# Altium footprint library Double_AD9653.PcbLib: 56 footprints (part 3 of 4)
Each footprint in its own frame and in the unit in brackets; x right, y up, seen from the top. Pads: shape width x height; smd on the part's side, far side on the other; paste and mask are expansions set on the pad; w line width, h text height; cw(c..) or ccw(c..) is an arc to the next point about the centre after c.
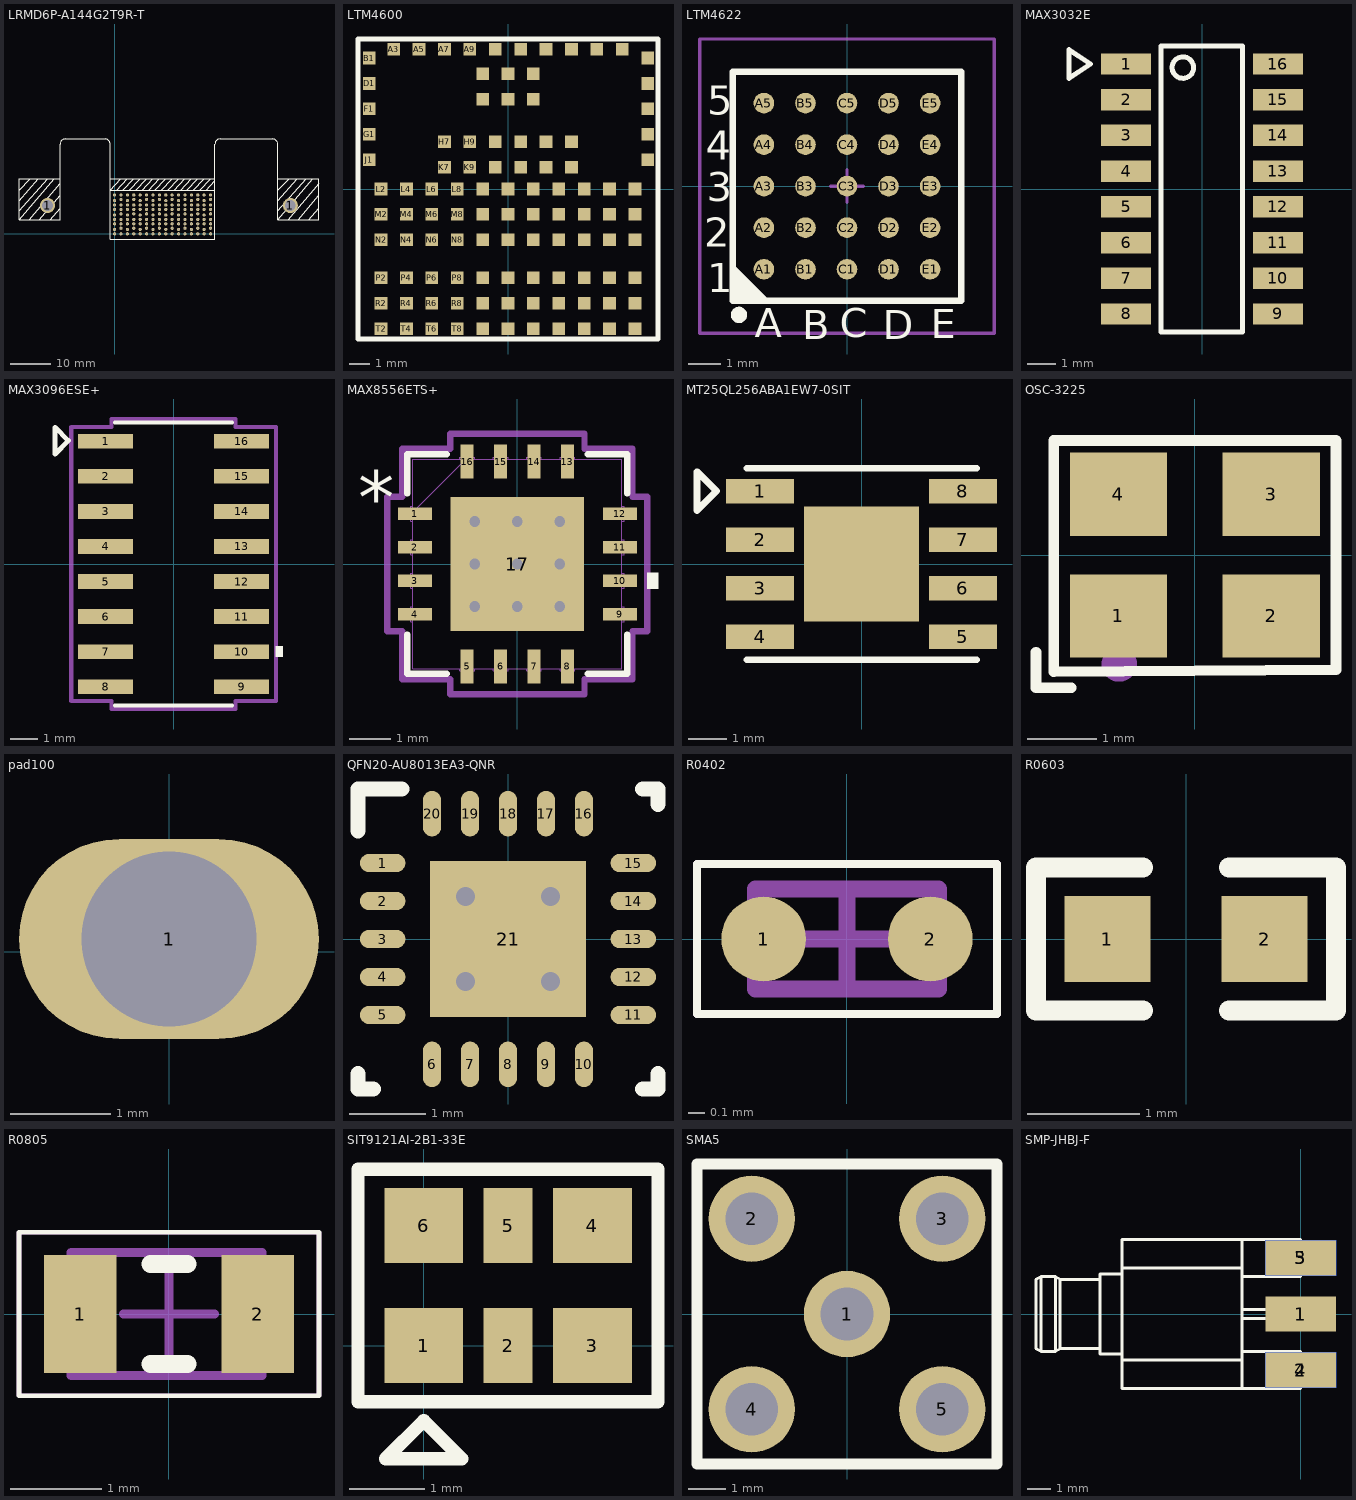
[diagram p2: the footprints below, top view; thin cyan lines are the x and y axes]

## LRMD6P-A144G2T9R-T [mm]
pads (146):
  round 3.8 hole 2.7: 1(-16.75,7.08) 1(43.95,7.08)
  round 0.8 hole 0.36: A8(0,0) A9(1.6,0) A10(3.2,0) A11(4.8,0) A12(6.4,0) A13(8,0) A14(9.6,0) A15(11.2,0) A16(12.8,0) A17(14.4,0) A18(16,0) A19(17.6,0) A20(19.2,0) A21(20.8,0) A22(22.4,0) A23(24,0) B8(0,1.1) B9(1.6,1.4) B10(3.2,1.1) B11(4.8,1.4) B12(6.4,1.1) B13(8,1.4) B14(9.6,1.1) B15(11.2,1.4) B16(12.8,1.1) B17(14.4,1.4) B18(16,1.1) B19(17.6,1.4) B20(19.2,1.1) B21(20.8,1.4) B22(22.4,1.1) B23(24,1.4) C8(0,2.5) C9(1.6,2.5) C10(3.2,2.5) C11(4.8,2.5) C12(6.4,2.5) C13(8,2.5) C14(9.6,2.5) C15(11.2,2.5) C16(12.8,2.5) C17(14.4,2.5) C18(16,2.5) C19(17.6,2.5) C20(19.2,2.5) C21(20.8,2.5) C22(22.4,2.5) C23(24,2.5) D8(0,3.6) D9(1.6,3.6) D10(3.2,3.6) D11(4.8,3.6) D12(6.4,3.6) D13(8,3.6) D14(9.6,3.6) D15(11.2,3.6) D16(12.8,3.6) D17(14.4,3.6) D18(16,3.6) D19(17.6,3.6) D20(19.2,3.6) D21(20.8,3.6) D22(22.4,3.6) D23(24,3.6) E8(0,4.7) E9(1.6,5) E10(3.2,4.7) E11(4.8,5) E12(6.4,4.7) E13(8,5) E14(9.6,4.7) E15(11.2,5) E16(12.8,4.7) E17(14.4,5) E18(16,4.7) E19(17.6,5) E20(19.2,4.7) E21(20.8,5) E22(22.4,4.7) E23(24,5) F8(0,6.1) F9(1.6,6.1) F10(3.2,6.1) F11(4.8,6.1) F12(6.4,6.1) F13(8,6.1) F14(9.6,6.1) F15(11.2,6.1) F16(12.8,6.1) F17(14.4,6.1) F18(16,6.1) F19(17.6,6.1) F20(19.2,6.1) F21(20.8,6.1) F22(22.4,6.1) F23(24,6.1) G8(0,7.2) G9(1.6,7.2) G10(3.2,7.2) G11(4.8,7.2) G12(6.4,7.2) G13(8,7.2) G14(9.6,7.2) G15(11.2,7.2) G16(12.8,7.2) G17(14.4,7.2) G18(16,7.2) G19(17.6,7.2) G20(19.2,7.2) G21(20.8,7.2) G22(22.4,7.2) G23(24,7.2) H8(0,8.3) H9(1.6,8.6) H10(3.2,8.3) H11(4.8,8.6) H12(6.4,8.3) H13(8,8.6) H14(9.6,8.3) H15(11.2,8.6) H16(12.8,8.3) H17(14.4,8.6) H18(16,8.3) H19(17.6,8.6) H20(19.2,8.3) H21(20.8,8.6) H22(22.4,8.3) H23(24,8.6) I8(0,9.7) I9(1.6,9.7) I10(3.2,9.7) I11(4.8,9.7) I12(6.4,9.7) I13(8,9.7) I14(9.6,9.7) I15(11.2,9.7) I16(12.8,9.7) I17(14.4,9.7) I18(16,9.7) I19(17.6,9.7) I20(19.2,9.7) I21(20.8,9.7) I22(22.4,9.7) I23(24,9.7)
Top Overlay:
  lines w0.254: -23.9,5.81 -16.75,13.8 ; -23.9,8.3 -19.042,13.811 ; -23.9,10.89 -21.074,13.8 ; -21.328,3.58 -13.581,12.668 ; -18.788,3.58 -13.6,9.7 ; -16.121,3.58 -13.6,6.445 ; -15.105,13.8 -23.9,3.58 ; -13.6,13.8 -23.9,13.8 -23.9,7.08 -23.9,3.58 ; -1.1,13.8 25.1,13.8 ; 0.5,10.89 3.2,13.8 ; 1.6,13.8 -1.1,10.89 25.1,10.89 ; 2.1,10.89 4.8,13.8 ; 3.7,10.89 6.4,13.8 ; 5.3,10.89 8,13.8 ; 6.9,10.89 9.6,13.8 ; 8.5,10.89 11.2,13.8 ; 10.1,10.89 12.8,13.8 ; 11.7,10.89 14.4,13.8 ; 13.3,10.89 16,13.8 ; 14.9,10.89 17.6,13.8 ; 16.5,10.89 19.2,13.8 ; 18.1,10.89 20.8,13.8 ; 19.7,10.89 22.4,13.8 ; 21.3,10.89 24,13.8 ; 22.9,10.89 25.058,13.215 ; 40.8,5.81 47.95,13.8 ; 40.8,8.3 45.658,13.811 ; 40.8,10.89 43.626,13.8 ; 40.8,13.8 51.1,13.8 51.1,7.08 51.1,3.58 43.95,3.58 40.8,3.58 ; 43.372,3.58 51.119,12.668 ; 45.912,3.58 51.1,9.7 ; 48.579,3.58 51.1,6.445 ; 49.595,13.8 40.8,3.58 ; -23.9,3.58 -16.75,3.58 -13.6,3.58 -13.6,7.08 -13.6,21.558 -13.6,22.447 cw(c-12.33,22.447) -12.33,23.717 -2.37,23.717 cw(c-2.37,22.447) -1.1,22.447 -1.1,0 -1.1,-1.3 25.1,-1.3 25.1,0 25.1,21.558 25.1,22.449 cw(c26.37,22.449) 26.37,23.719 39.53,23.719 cw(c39.53,22.449) 40.8,22.449 40.8,21.558 40.8,7.08 40.8,3.58
Drill Guide:
  lines w0.254: -16.75,13.8 -16.75,7.08 ; -13.6,7.08 -16.75,7.08 ; -1.1,0 0,0 0,-1.3 ; 24,-1.3 24,0 25.1,0 ; 40.8,7.08 43.95,7.08 ; 43.95,3.58 43.95,7.08 ; 43.95,13.8 43.95,7.08 ; -23.9,7.08 -16.75,7.08 ; -23.9,7.08 -23.9,13.8 51.1,13.8 51.1,7.08 ; -23.9,7.08 -16.75,7.08 ; 43.95,7.08 51.1,7.08 ; 43.95,7.08 51.1,7.08

## LTM4600 [mm] "High Effciency DC/DC μModule"
height 3
pads (104):
  rect 0.635x0.635 smd: A3(-5.716,6.989) A5(-4.446,6.989) A7(-3.176,6.989) A9(-1.906,6.989) A11(-0.636,6.989) A13(0.634,6.989) A15(1.904,6.989) A17(3.174,6.989) A19(4.444,6.989) A21(5.715,6.989) B23(6.987,6.548) C10(-1.27,5.765) C12(0,5.765) C14(1.27,5.765) D1(-6.942,5.278) D23(6.987,5.278) E10(-1.27,4.495) E12(0,4.495) E14(1.27,4.495) F1(-6.942,4.008) F23(6.987,4.008) G1(-6.942,2.738) G23(6.987,2.738) H7(-3.176,2.36) H9(-1.906,2.36) H11(-0.636,2.36) H13(0.634,2.36) H15(1.904,2.36) H17(3.174,2.36) J1(-6.942,1.468) J23(6.987,1.468) K7(-3.176,1.09) K9(-1.906,1.09) K11(-0.636,1.09) K13(0.634,1.09) K15(1.904,1.09) K17(3.174,1.09) L2(-6.35,0) L4(-5.08,0) L6(-3.81,0) L8(-2.54,0) L10(-1.27,0) L12(0,0) L14(1.27,0) L16(2.54,0) L18(3.81,0) L20(5.08,0) L22(6.35,0) M2(-6.35,-1.27) M4(-5.08,-1.27) M6(-3.81,-1.27) M8(-2.54,-1.27) M10(-1.27,-1.27) M12(0,-1.27) M14(1.27,-1.27) M16(2.54,-1.27) M18(3.81,-1.27) M20(5.08,-1.27) M22(6.35,-1.27) N2(-6.35,-2.54) N4(-5.08,-2.54) N6(-3.81,-2.54) N8(-2.54,-2.54) N10(-1.27,-2.54) N12(0,-2.54) N14(1.27,-2.54) N16(2.54,-2.54) N18(3.81,-2.54) N20(5.08,-2.54) N22(6.35,-2.54) P2(-6.35,-4.445) P4(-5.08,-4.445) P6(-3.81,-4.445) P8(-2.54,-4.445) P10(-1.27,-4.445) P12(0,-4.445) P14(1.27,-4.445) P16(2.54,-4.445) P18(3.81,-4.445) P20(5.08,-4.445) P22(6.35,-4.445) R2(-6.35,-5.715) R4(-5.08,-5.715) R6(-3.81,-5.715) R8(-2.54,-5.715) R10(-1.27,-5.715) R12(0,-5.715) R14(1.27,-5.715) R16(2.54,-5.715) R18(3.81,-5.715) R20(5.08,-5.715) R22(6.35,-5.715) T2(-6.35,-6.985) T4(-5.08,-6.985) T6(-3.81,-6.985) T8(-2.54,-6.985) T10(-1.27,-6.985) T12(0,-6.985) T14(1.27,-6.985) T16(2.54,-6.985) T18(3.81,-6.985) T20(5.08,-6.985) T22(6.35,-6.985)
  rect 0.635x0.635 smd paste+0: B1(-6.942,6.548)
Top Overlay:
  lines w0.254: -7.5,-7.5 -7.5,7.5 7.5,7.5 7.5,-7.5 -7.5,-7.5
  text "." at -7.899,6.528 h1.52

## LTM4622 [mm]
pads (25):
  round 0.63 smd: A1(-2.54,-2.54) A2(-2.54,-1.27) A3(-2.54,0) A4(-2.54,1.27) A5(-2.54,2.54) B1(-1.27,-2.54) B2(-1.27,-1.27) B3(-1.27,0) B4(-1.27,1.27) B5(-1.27,2.54) C1(0,-2.54) C2(0,-1.27) C3(0,0) C4(0,1.27) C5(0,2.54) D1(1.27,-2.54) D2(1.27,-1.27) D3(1.27,0) D4(1.27,1.27) D5(1.27,2.54) E1(2.54,-2.54) E2(2.54,-1.27) E3(2.54,0) E4(2.54,1.27) E5(2.54,2.54)
Top Overlay:
  circle w0.25: c-3.302,-3.937 r0.125
  region: -3.5,-2.5 -2.5,-3.5 -3.5,-3.5
  lines w0.2: -3.5,-2.5 -2.5,-3.5 ; -3.5,-3.5 -3.5,3.5 3.5,3.5 3.5,-3.5 -3.5,-3.5
  text "A" at -2.819,-4.623 h0.89
  text "B" at -1.372,-4.674 h0.89
  text "C" at -0.229,-4.623 h0.89
  text "D" at 1.092,-4.674 h0.89
  text "E" at 2.565,-4.648 h0.89
  text "1" at -4.267,-3.251 h0.89
  text "2" at -4.369,-1.854 h0.89
  text "3" at -4.293,-0.457 h0.89
  text "4" at -4.318,0.813 h0.89
  text "5" at -4.267,2.184 h0.89
Mechanical 13:
  lines w0.1: -3.5,-3.5 -3.5,3.5 3.5,3.5 3.5,-3.5 -3.5,-3.5
Mechanical 15:
  lines w0.1: -0.5,0 0.5,0 ; 0,-0.5 0,0.5 ; -4.5,-4.5 -4.5,4.5 4.5,4.5 4.5,-4.5 -4.5,-4.5
3D body: height 1.55, standoff 0, extent -3.5,-3.5 3.5,3.5

## MAX3032E [mil]
pads (16):
  rect 70x30 smd: 1(-106.3,175) 2(-106.3,125) 3(-106.3,75) 4(-106.3,25) 5(-106.3,-25) 6(-106.3,-75) 7(-106.3,-125) 8(-106.3,-175) 9(106.3,-175) 10(106.3,-125) 11(106.3,-75) 12(106.3,-25) 13(106.3,25) 14(106.3,75) 15(106.3,125) 16(106.3,175)
Top Overlay:
  circle w7: c-26.97,170 r15
  lines w7: -186.3,155 -186.3,195 -156.3,175 -186.3,155 ; -57.3,-200 -57.3,200 56.55,200 56.55,-200 -57.3,-200

## MAX3096ESE+ [mil]
pads (16):
  rect 78x21 smd: 1(-97,175) 2(-97,125) 3(-97,75) 4(-97,25) 5(-97,-25) 6(-97,-75) 7(-97,-125) 8(-97,-175) 9(97,-175) 10(97,-125) 11(97,-75) 12(97,-25) 13(97,25) 14(97,75) 15(97,125) 16(97,175)
Top Overlay:
  region: 146,-117.5 156,-117.5 156,-132.5 146,-132.5
  lines w6: -83.5,-202 83.5,-202 ; -83.5,202 83.5,202
  lines w7: -169,157 -169,195 -150,176 -169,157
Mechanical 15:
  lines w6: -146,-195.5 -146,195.5 -88.5,195.5 -88.5,207 88.5,207 88.5,195.5 146,195.5 146,-195.5 88.5,-195.5 88.5,-207 -88.5,-207 -88.5,-195.5 -146,-195.5

## MAX8556ETS+ [mil]
pads (17):
  rect 32x12 smd paste+0 mask+0: 1(-96.5,47.24) 2(-96.5,15.75) 3(-96.5,-15.75) 4(-96.5,-47.24) 9(96.5,-47.24) 10(96.5,-15.75) 11(96.5,15.75) 12(96.5,47.24)
  rect 12x32 smd paste+0 mask+0: 5(-47.24,-96.5) 6(-15.75,-96.5) 7(15.75,-96.5) 8(47.24,-96.5) 13(47.24,96.5) 14(15.75,96.5) 15(-15.75,96.5) 16(-47.24,96.5)
  rect 126x126 smd paste-62.5 mask+0: 17(0,0)
via 40,0 diameter 18 hole 10
via 40,-40 diameter 18 hole 10
via -40,-40 diameter 18 hole 10
via -40,40 diameter 18 hole 10
via 40,40 diameter 18 hole 10
via -40,0 diameter 18 hole 10
via 0,-40 diameter 18 hole 10
via 0,40 diameter 18 hole 10
via 0,0 diameter 18 hole 10
Top Overlay:
  region: 122.5,-8.25 132.5,-8.25 132.5,-23.25 122.5,-23.25
  lines w6: -103.5,-66.34 -103.5,-103.5 -66.34,-103.5 ; -103.5,66.34 -103.5,103.5 -66.34,103.5 ; 66.34,-103.5 103.5,-103.5 103.5,-66.34 ; 66.34,103.5 103.5,103.5 103.5,66.34
  text "*" at -150,37.99 h50
Top Paste:
  region: -3.94,59.06 -59.06,59.06 -59.06,3.94 -3.94,3.94
  region: -3.94,-3.94 -59.06,-3.94 -59.06,-59.06 -3.94,-59.06
  region: 59.06,59.06 3.94,59.06 3.94,3.94 59.06,3.94
  region: 59.06,-3.94 3.94,-3.94 3.94,-59.06 59.06,-59.06
Mechanical 13:
  lines w1: -98.5,48.5 -48.5,98.5 ; -100.5,-54.24 -100.5,-40.24 -98.5,-40.24 -98.5,-54.24 -100.5,-54.24 ; -100.5,-22.75 -100.5,-8.75 -98.5,-8.75 -98.5,-22.75 -100.5,-22.75 ; -100.5,8.75 -100.5,22.75 -98.5,22.75 -98.5,8.75 -100.5,8.75 ; -100.5,40.24 -100.5,54.24 -98.5,54.24 -98.5,40.24 -100.5,40.24 ; -98.5,-98.5 98.5,-98.5 98.5,98.5 -98.5,98.5 -98.5,-98.5 ; -54.24,-100.5 -54.24,-98.5 -40.24,-98.5 -40.24,-100.5 -54.24,-100.5 ; -54.24,98.5 -40.24,98.5 -40.24,100.5 -54.24,100.5 -54.24,98.5 ; -22.75,-100.5 -22.75,-98.5 -8.75,-98.5 -8.75,-100.5 -22.75,-100.5 ; -22.75,98.5 -8.75,98.5 -8.75,100.5 -22.75,100.5 -22.75,98.5 ; 8.75,-100.5 8.75,-98.5 22.75,-98.5 22.75,-100.5 8.75,-100.5 ; 8.75,98.5 22.75,98.5 22.75,100.5 8.75,100.5 8.75,98.5 ; 40.24,-100.5 40.24,-98.5 54.24,-98.5 54.24,-100.5 40.24,-100.5 ; 40.24,98.5 54.24,98.5 54.24,100.5 40.24,100.5 40.24,98.5 ; 98.5,-54.24 98.5,-40.24 100.5,-40.24 100.5,-54.24 98.5,-54.24 ; 98.5,-22.75 98.5,-8.75 100.5,-8.75 100.5,-22.75 98.5,-22.75 ; 98.5,8.75 98.5,22.75 100.5,22.75 100.5,8.75 98.5,8.75 ; 98.5,40.24 98.5,54.24 100.5,54.24 100.5,40.24 98.5,40.24
  text "*" at -93,37.99 h50
Mechanical 15:
  lines w6: -122.5,-63.24 -108.5,-63.24 -108.5,-108.5 -63.24,-108.5 -63.24,-122.5 63.24,-122.5 63.24,-108.5 108.5,-108.5 108.5,-63.24 122.5,-63.24 122.5,63.24 108.5,63.24 108.5,108.5 63.24,108.5 63.24,122.5 -63.24,122.5 -63.24,108.5 -108.5,108.5 -108.5,63.24 -122.5,63.24 -122.5,-63.24
3D body "21-0140_T1655+3_MXM.step": height 32.09, standoff 0, extent -100.51,-100.51 100.51,100.51

## MT25QL256ABA1EW7-0SIT [mm]
pads (9):
  rect 1.778x0.635 smd: 1(-2.65,1.905) 2(-2.65,0.635) 3(-2.65,-0.635) 4(-2.65,-1.905) 5(2.65,-1.905) 6(2.65,-0.635) 7(2.65,0.635) 8(2.65,1.905)
  rect 3x3 smd: ""(0,0)
Top Overlay:
  lines w0.178: -3,-2.5 3,-2.5 ; -3,2.5 3,2.5 ; -4.301,1.397 -4.301,2.413 -3.793,1.905 -4.301,1.397

## OSC-3225 [mm]
pads (4):
  rect 1.4x1.2 smd: 1(-1.1,-0.875) 2(1.1,-0.875) 3(1.1,0.875) 4(-1.1,0.875)
Top Overlay:
  lines w0.152: -2.286,-1.397 -2.286,-1.905 -1.778,-1.905 ; -2.029,-1.679 2.032,-1.651 2.032,0 2.032,1.651 -2.029,1.651 -2.029,-1.679
Mechanical 15:
  circle w0.254: c-1.088,-1.567 r0.127
  region: -1.738,-0.536 -1.702,-0.536 -1.702,-0.608 -1.738,-0.608
  region: -1.702,-0.536 -1.666,-0.536 -1.666,-0.608 -1.702,-0.608
  region: -1.666,-0.5 -1.63,-0.5 -1.63,-0.608 -1.666,-0.608
  region: -1.63,-0.464 -1.594,-0.464 -1.594,-0.572 -1.63,-0.572
  region: -1.594,-0.464 -1.558,-0.464 -1.558,-1.004 -1.594,-1.004
  region: -1.558,-0.428 -1.522,-0.428 -1.522,-1.004 -1.558,-1.004
  region: -1.522,-0.428 -1.486,-0.428 -1.486,-1.004 -1.522,-1.004
  region: -1.486,-0.428 -1.45,-0.428 -1.45,-1.004 -1.486,-1.004

## pad100 [mm]
pads (1):
  oval 3x2 hole 1.75: 1(0,0.127)

## QFN20-AU8013EA3-QNR [mm]
height 0.9
pads (21):
  oval 0.6x0.24 smd: 1(-1.65,1) 2(-1.65,0.5) 3(-1.65,0) 4(-1.65,-0.5) 5(-1.65,-1) 11(1.65,-1) 12(1.65,-0.5) 13(1.65,0) 14(1.65,0.5) 15(1.65,1)
  oval 0.24x0.6 smd: 6(-1,-1.65) 7(-0.5,-1.65) 8(0,-1.65) 9(0.5,-1.65) 10(1,-1.65) 16(1,1.65) 17(0.5,1.65) 18(0,1.65) 19(-0.5,1.65) 20(-1,1.65)
  rect 2.05x2.05 smd: 21(0,0)
via -0.559,-0.559 diameter 0.457 hole 0.254
via 0.559,-0.559 diameter 0.457 hole 0.254
via 0.559,0.559 diameter 0.457 hole 0.254
via -0.559,0.559 diameter 0.457 hole 0.254
Top Overlay:
  lines w0.2: -1.975,-1.775 -1.975,-1.975 -1.775,-1.975 ; -1.975,1.425 -1.975,1.975 -1.4,1.975 ; 1.775,-1.975 1.975,-1.975 1.975,-1.775 ; 1.775,1.975 1.975,1.975 1.975,1.775

## R0402 [mil]
height 11.81
pads (2):
  round 20 smd: 1(-19.68,0) 2(19.68,0)
Top Overlay:
  lines w1.97: -35.43,-17.72 35.43,-17.72 35.43,17.72 -35.43,17.72 -35.43,-17.72
Mechanical 13:
  lines w3.94: -21.65,-11.81 -21.65,11.81 21.65,11.81 21.65,-11.81 -21.65,-11.81
Mechanical 15:
  lines w1.97: -35.43,-17.72 35.43,-17.72 35.43,17.72 -35.43,17.72 -35.43,-17.72
  lines w3.94: -9.84,0 9.84,0 ; 0,-9.84 0,9.84
3D body "R0402.STEP": height 13.78, standoff 0, extent -19.68,-9.84 19.69,9.85

## R0603 [mil]
pads (2):
  rect 30x30 smd: 1(-27.5,0) 2(27.5,0)
Top Overlay:
  lines w7: -15,-25 -52.5,-25 -52.5,25 -15,25 ; 15,-25 52.5,-25 52.5,25 15,25

## R0805 [mm]
height 0.5
pads (2):
  rect 0.8x1.3 smd: 1(-0.975,0) 2(0.975,0)
Top Overlay:
  lines w0.05: -1.65,-0.9 1.65,-0.9 1.65,0.9 -1.65,0.9 -1.65,-0.9
  lines w0.2: -0.2,-0.55 0.2,-0.55 ; -0.2,0.55 0.2,0.55
Mechanical 13:
  lines w0.1: -1.075,-0.675 -1.075,0.675 1.025,0.675 1.025,-0.675 -1.075,-0.675
Mechanical 15:
  lines w0.05: -1.65,-0.9 1.65,-0.9 1.65,0.9 -1.65,0.9 -1.65,-0.9
  lines w0.1: -0.5,0 0.5,0 ; 0,-0.5 0,0.5
3D body "R0805.STEP": height 0.55, standoff 0, extent -1.025,-0.63 0.975,0.63

## SIT9121AI-2B1-33E [mm]
pads (6):
  rect 1.05x1 smd: 1(0,0) 3(2.25,0) 4(2.25,1.6) 6(0,1.6)
  rect 0.65x1 smd: 2(1.125,0) 5(1.125,1.6)
Top Overlay:
  lines w0.178: -0.875,-0.75 3.125,-0.75 3.125,2.35 -0.875,2.35 -0.875,-0.75 ; -0.508,-1.508 0.508,-1.508 0,-1 -0.508,-1.508

## SMA5 [mm]
pads (5):
  round 2.3 hole 1.4: 1(0,0) 2(-2.54,2.54) 3(2.54,2.54) 4(-2.54,-2.54) 5(2.54,-2.54)
Top Overlay:
  lines w0.305: -4,-4 4,-4 4,4 -4,4 -4,-4

## SMP-JHBJ-F [mm]
pads (5):
  rect 3x1.5 smd: 1(0,0) 2(0,-2.385) 3(0,2.385)
  rect 3x1.5 smd far side: 4(0,-2.385) 5(0,2.385)
Top Overlay:
  lines w0.127: -8.535,-1.475 -10.23,-1.475 ; -8.535,1.475 -10.23,1.475 ; -7.6,-1.7 -8.535,-1.7 -8.535,1.571 -8.535,1.7 -7.6,1.7 ; -2.5,-1.6 0,-1.6 0,-3.169 ; -2.5,-0.19 0,-0.19 0,0.19 -2.5,0.19 ; -2.5,1.6 0,1.6 0,3.169 ; -11.05,-1.59 -11.26,-1.475 -11.26,1.363 -11.26,1.475 -11.05,1.59 ; -11.05,-1.59 -11.05,1.47 -11.05,1.59 ; -11.05,-1.59 -10.44,-1.59 ; -11.05,1.59 -10.44,1.59 ; -10.44,-1.59 -10.44,1.47 -10.44,1.59 ; -10.44,-1.59 -10.23,-1.475 ; -10.44,1.59 -10.23,1.475 ; -10.23,-1.475 -10.23,1.363 -10.23,1.475 ; -7.6,-1.957 -7.6,-3.175 0,-3.175 0,-3.169 ; -7.6,-1.957 -2.5,-1.957 ; -7.6,-1.957 -7.6,1.957 ; -7.6,1.957 -2.5,1.957 ; -7.6,1.957 -7.6,3.175 0,3.175 0,3.169 ; -2.5,-1.957 -2.5,-3.169 0,-3.169 ; -2.5,-1.957 -2.5,1.957 ; -2.5,1.957 -2.5,3.169 0,3.169